# Altium footprint library R2G1CH012.PcbLib: 1 footprints
Each footprint in its own frame and in the unit in brackets; x right, y up, seen from the top. Pads: shape width x height; smd on the part's side, far side on the other; paste and mask are expansions set on the pad; w line width, h text height; cw(c..) or ccw(c..) is an arc to the next point about the centre after c.
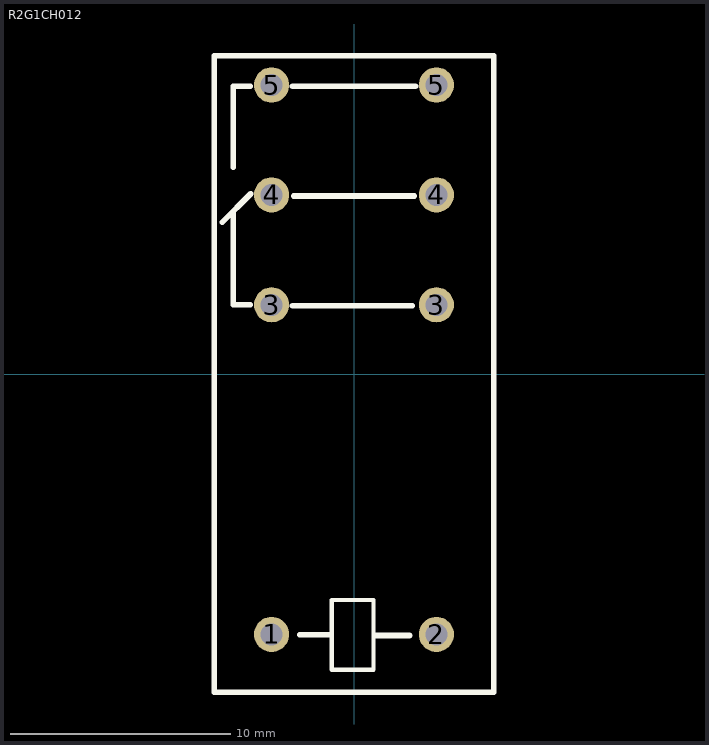
[diagram p0: the footprint, top view; thin cyan lines are the x and y axes]

## R2G1CH012 [mm]
pads (8):
  round 1.6 hole 1: 1(-3.75,-11.85) 2(3.75,-11.85) 3(-3.75,3.15) 3(3.75,3.15) 4(-3.75,8.15) 4(3.75,8.15) 5(-3.75,13.15) 5(3.75,13.15)
Top Overlay:
  lines w0.2: -1.011,-13.46 -1.011,-10.285 0.889,-10.285 0.889,-13.46 -1.011,-13.46
  lines w0.254: -6,6.9 -4.7,8.2 ; -5.5,7.3 -5.5,3.15 ; -5.5,9.4 -5.5,13.1 -4.725,13.1 ; -4.725,3.15 -5.5,3.15 ; -2.8,3.1 2.65,3.1 ; -2.8,13.1 2.8,13.1 ; -2.75,8.1 2.75,8.1 ; -2.477,-11.873 -1.075,-11.873 ; 0.939,-11.897 2.527,-11.897 ; -5.5,3.15 -5.5,3.15 ; -6.35,-14.478 6.35,-14.478 6.35,14.478 -6.35,14.478 -6.35,-14.478
3D body "Реле R2G1CH012.stp": height 15.74, standoff -3.77, extent -6.35,-14.5 6.35,14.5